# EAGLE library part LM22675 (library 1)
LM22675 1A Step-Down Voltage Regulator
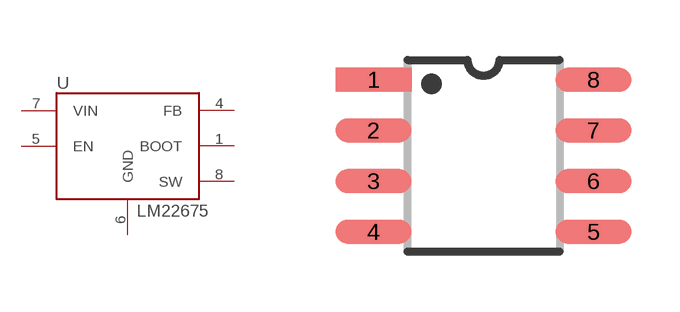
[diagram p40: symbol with the pads of SOIC-8; footprint SOIC-8]

Designator prefix -

## LM22675  [SOIC-8]
1  BOOT
4  FB
5  EN
6  GND
7  VIN
8  SW

## Footprint SOIC-8 (pad centres in mm)
SOIC-8
smd 1.9 x 0.6: 1 -2.75,1.905; 2 -2.75,0.635; 3 -2.75,-0.635; 4 -2.75,-1.905; 5 2.75,-1.905; 6 2.75,-0.635; 7 2.75,0.635; 8 2.75,1.905